# Altium schematic symbol library picr22-team-GibiBot-mainboard.SchLib: 6 symbols
Pins are listed as number, name and electrical type; pins without a type are passive.

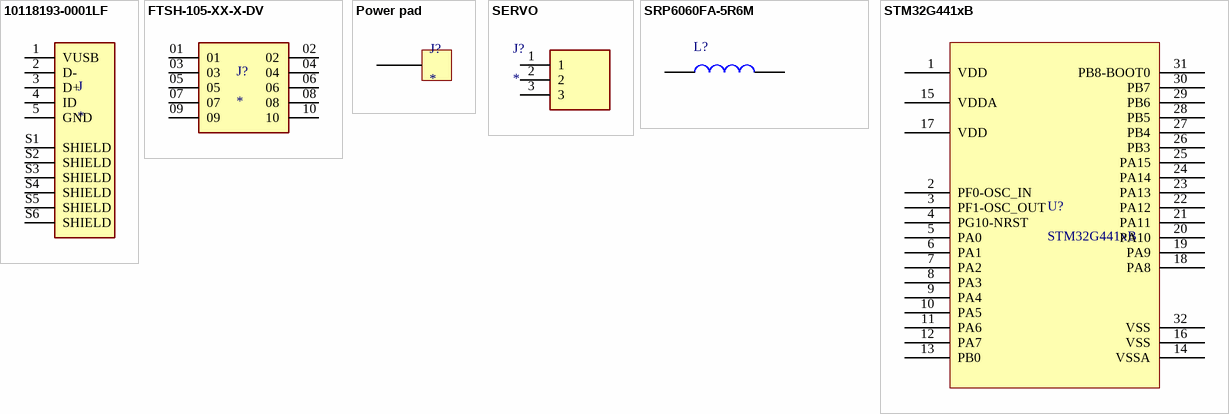
[diagram p0: symbols 10118193-0001LF to STM32G441xB]

## 10118193-0001LF
designator J
USB - micro B USB 2.0 Receptacle Connector 5 Position Surface Mount, Right Angle; Through Hole; MP: 10118193-0001LF; MF: Amphenol ICC; Availability: Unavailable; SnapEDA_Link: https://www.snapeda.com/parts/10118193-0001LF/Amphenol%20FCI/view-part/2758989/?ref=snap; Price: None; Value: *; Package: None
footprint FCI_10118193-0001LF
pins: 1 VUSB, 2 D-, 3 D+, 4 ID, 5 GND, S1 SHIELD, S2 SHIELD, S3 SHIELD, S4 SHIELD, S5 SHIELD, S6 SHIELD

## FTSH-105-XX-X-DV
designator J?
Connector Header Surface Mount 10 position 0.050" (1.27mm); MP: FTSH-105-XX-X-DV; Availability: Unavailable; Package: None; Price: None; Value: *
footprint SAMTEC_FTSH-105-XX-X-DV
pins: 01, 02, 03, 04, 05, 06, 07, 08, 09, 10

## Power pad
designator J?
footprint Power pad
pins: 2 PAD (power)

## SERVO
designator J?
Connector; Manufacturer_Name: Amphenol; Datasheet Link: https://cdn.amphenol-cs.com/media/wysiwyg/files/drawing/78208.pdf; Height: 5.54mm; Mouser Part Number: 649-78208-103; Mouser Price/Stock: https://www.mouser.co.uk/ProductDetail/Amphenol-FCI/78208-103?qs=aFaVeqgBj1H8lO9kIoPCww%3D%3D; Arrow Part Number: 78208-103; Arrow Price/Stock: https://www.arrow.com/en/products/78208-103/amphenol-fci
footprint SERVO
pins: 1, 2, 3

## SRP6060FA-5R6M
designator L?
BOURNS - SRP6060FA-5R6M - Power Inductor (SMD), 5.6 H, 10 A, Shielded, 10 A, SRP6060FA Series, 6.6mm x 6.4mm x 5.8mm; Geometry.Height: 6mm; On Line Components Part Number: *; On Line Components Price/Stock: *; Manufacturer_Name: Bourns; Manufacturer_Part_Number: SRP6060FA-5R6M; Datasheet Link: https://www.bourns.com/docs/Product-Datasheets/SRP6060FA.pdf
footprint SRP6060FA5R6M
pins: 1, 2

## STM32G441xB
designator U?
footprint STM32G441KB (TQFP, 32-Leads, Body 7,00x7,00mm, Pitch 0,80mm, IPC Medium Density)
pins: 1 VDD, 2 PF0-OSC_IN, 3 PF1-OSC_OUT, 4 PG10-NRST, 5 PA0, 6 PA1, 7 PA2, 8 PA3, 9 PA4, 10 PA5, 11 PA6, 12 PA7, 13 PB0, 14 VSSA, 15 VDDA, 16 VSS, 17 VDD, 18 PA8, 19 PA9, 20 PA10, 21 PA11, 22 PA12, 23 PA13, 24 PA14, 25 PA15, 26 PB3, 27 PB4, 28 PB5, 29 PB6, 30 PB7, 31 PB8-BOOT0, 32 VSS